# Altium schematic symbol library B3U-1000P-B.SchLib: 2 symbols
Pins are listed as number, name and electrical type; pins without a type are passive.

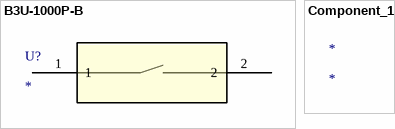
[diagram p0: symbols B3U-1000P-B to Component_1]

## B3U-1000P-B
designator U?
No Description Available; Mfr_Name: Omron; RefDes: RefDes; Type: Type
footprint B3U-1000P-B
pins: 1, 2

## Component_1
designator *